# Altium footprint library 23387921.PcbLib: 1 footprints
Each footprint in its own frame and in the unit in brackets; x right, y up, seen from the top. Pads: shape width x height; smd on the part's side, far side on the other; paste and mask are expansions set on the pad; w line width, h text height; cw(c..) or ccw(c..) is an arc to the next point about the centre after c.
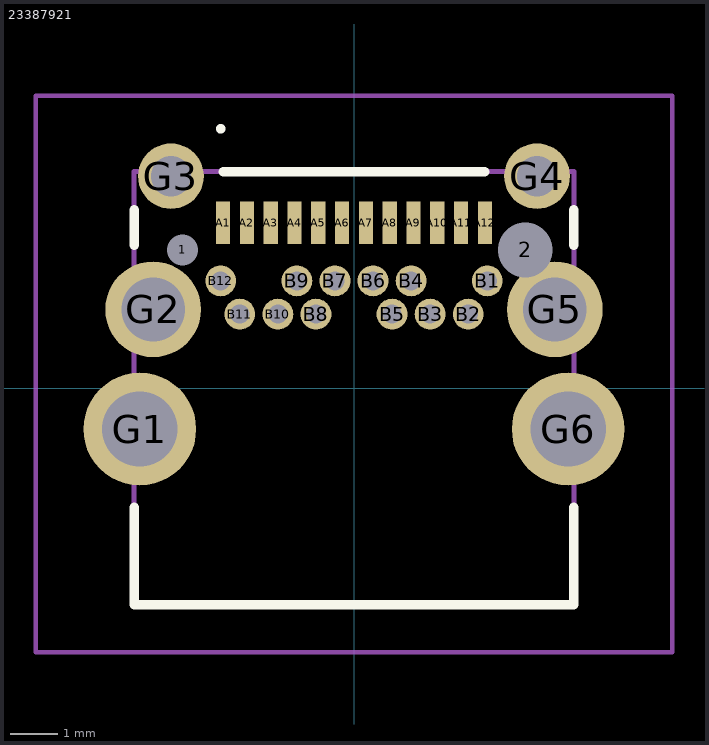
[diagram p0: the footprint, top view; thin cyan lines are the x and y axes]

## 23387921 [mm]
pads (32):
  round 0.325 hole 0.65 unplated: 1(-3.6,2.905)
  round 0.575 hole 1.15 unplated: 2(3.6,2.905)
  rect 0.3x0.9 smd: A1(-2.75,3.475) A2(-2.25,3.475) A3(-1.75,3.475) A4(-1.25,3.475) A5(-0.75,3.475) A6(-0.25,3.475) A7(0.25,3.475) A8(0.75,3.475) A9(1.25,3.475) A10(1.75,3.475) A11(2.25,3.475) A12(2.75,3.475)
  round 0.65 hole 0.4: B1(2.8,2.255) B2(2.4,1.555) B3(1.6,1.555) B4(1.2,2.255) B5(0.8,1.555) B6(0.4,2.255) B7(-0.4,2.255) B8(-0.8,1.555) B9(-1.2,2.255) B10(-1.6,1.555) B11(-2.4,1.555) B12(-2.8,2.255)
  round 2.37 hole 1.58: G1(-4.5,-0.86) G6(4.5,-0.86)
  round 2.01 hole 1.34: G2(-4.22,1.655) G5(4.22,1.655)
  round 1.381 hole 0.85: G3(-3.845,4.455) G4(3.845,4.455)
Top Overlay:
  lines w0.1: -2.8,5.4 cw(c-2.8,5.45) -2.8,5.5 ; -2.8,5.4 -2.8,5.4 ; -2.8,5.4 ccw(c-2.8,5.45) -2.8,5.5 ; -2.8,5.5 -2.8,5.5
  lines w0.2: -4.62,-2.502 -4.62,-4.55 4.62,-4.55 4.62,-2.502 ; -4.62,3 -4.62,3.75 ; -2.75,4.55 2.75,4.55 ; 4.62,3 4.62,3.75
Mechanical 15:
  lines w0.1: -4.62,-4.55 4.62,-4.55 4.62,4.55 -4.62,4.55 -4.62,-4.55
Mechanical 20:
  lines w0.1: -6.685,-5.55 6.685,-5.55 6.685,6.146 -6.685,6.146 -6.685,-5.55